# EAGLE library part NM180100 (library JTD_Consulting)
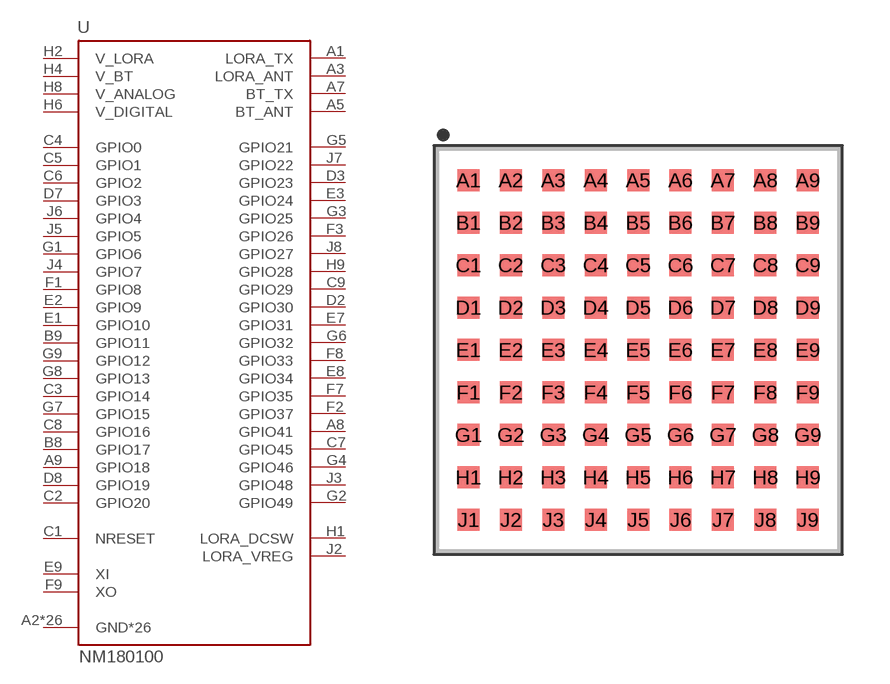
[diagram p0: symbol with the pads of LGA81; footprint LGA81]

Designator prefix U

## NM180100 (PROD_ID: IC-15464)  [LGA81]
A1  LORA_TX
A2  GND*26
A3  LORA_ANT
A4  GND*26
A5  BT_ANT
A6  GND*26
A7  BT_TX
A8  GPIO41
A9  GPIO18
B1  GND*26
B2  GND*26
B3  GND*26
B4  GND*26
B5  GND*26
B6  GND*26
B7  GND*26
B8  GPIO17
B9  GPIO11
C1  NRESET
C2  GPIO20
C3  GPIO14
C4  GPIO0
C5  GPIO1
C6  GPIO2
C7  GPIO45
C8  GPIO16
C9  GPIO29
D1  GND*26
D2  GPIO30
D3  GPIO23
D4  GND*26
D5  GND*26
D6  GND*26
D7  GPIO3
D8  GPIO19
D9  GND*26
E1  GPIO10
E2  GPIO9
E3  GPIO24
E4  GND*26
E5  GND*26
E6  GND*26
E7  GPIO31
E8  GPIO34
E9  XI
F1  GPIO8
F2  GPIO37
F3  GPIO26
F4  GND*26
F5  GND*26
F6  GND*26
F7  GPIO35
F8  GPIO33
F9  XO
G1  GPIO6
G2  GPIO49
G3  GPIO25
G4  GPIO46
G5  GPIO21
G6  GPIO32
G7  GPIO15
G8  GPIO13
G9  GPIO12
H1  LORA_DCSW
H2  V_LORA
H3  GND*26
H4  V_BT
H5  GND*26
H6  V_DIGITAL
H7  GND*26
H8  V_ANALOG
H9  GPIO28
J1  GND*26
J2  LORA_VREG
J3  GPIO48
J4  GPIO7
J5  GPIO5
J6  GPIO4
J7  GPIO22
J8  GPIO27
J9  GND*26

## Footprint LGA81 (pad centres in mm)
smd 0.7 x 0.7: A1 -5.4,5.4; A2 -4.05,5.4; A3 -2.7,5.4; A4 -1.35,5.4; A5 0,5.4; A6 1.35,5.4; A7 2.7,5.4; A8 4.05,5.4; A9 5.4,5.4; B1 -5.4,4.05; B2 -4.05,4.05; B3 -2.7,4.05; B4 -1.35,4.05; B5 0,4.05; B6 1.35,4.05; B7 2.7,4.05; B8 4.05,4.05; B9 5.4,4.05; C1 -5.4,2.7; C2 -4.05,2.7; C3 -2.7,2.7; C4 -1.35,2.7; C5 0,2.7; C6 1.35,2.7; C7 2.7,2.7; C8 4.05,2.7; C9 5.4,2.7; D1 -5.4,1.35; D2 -4.05,1.35; D3 -2.7,1.35; D4 -1.35,1.35; D5 0,1.35; D6 1.35,1.35; D7 2.7,1.35; D8 4.05,1.35; D9 5.4,1.35; E1 -5.4,0; E2 -4.05,0; E3 -2.7,0; E4 -1.35,0; E5 0,0; E6 1.35,0; E7 2.7,0; E8 4.05,0; E9 5.4,0; F1 -5.4,-1.35; F2 -4.05,-1.35; F3 -2.7,-1.35; F4 -1.35,-1.35; F5 0,-1.35; F6 1.35,-1.35; F7 2.7,-1.35; F8 4.05,-1.35; F9 5.4,-1.35; G1 -5.4,-2.7; G2 -4.05,-2.7; G3 -2.7,-2.7; G4 -1.35,-2.7; G5 0,-2.7; G6 1.35,-2.7; G7 2.7,-2.7; G8 4.05,-2.7; G9 5.4,-2.7; H1 -5.4,-4.05; H2 -4.05,-4.05; H3 -2.7,-4.05; H4 -1.35,-4.05; H5 0,-4.05; H6 1.35,-4.05; H7 2.7,-4.05; H8 4.05,-4.05; H9 5.4,-4.05; J1 -5.4,-5.4; J2 -4.05,-5.4; J3 -2.7,-5.4; J4 -1.35,-5.4; J5 0,-5.4; J6 1.35,-5.4; J7 2.7,-5.4; J8 4.05,-5.4; J9 5.4,-5.4